# Altium footprint library PcbLib.PcbLib: 285 footprints (part 12 of 18)
Each footprint in its own frame and in the unit in brackets; x right, y up, seen from the top. Pads: shape width x height; smd on the part's side, far side on the other; paste and mask are expansions set on the pad; w line width, h text height; cw(c..) or ccw(c..) is an arc to the next point about the centre after c.
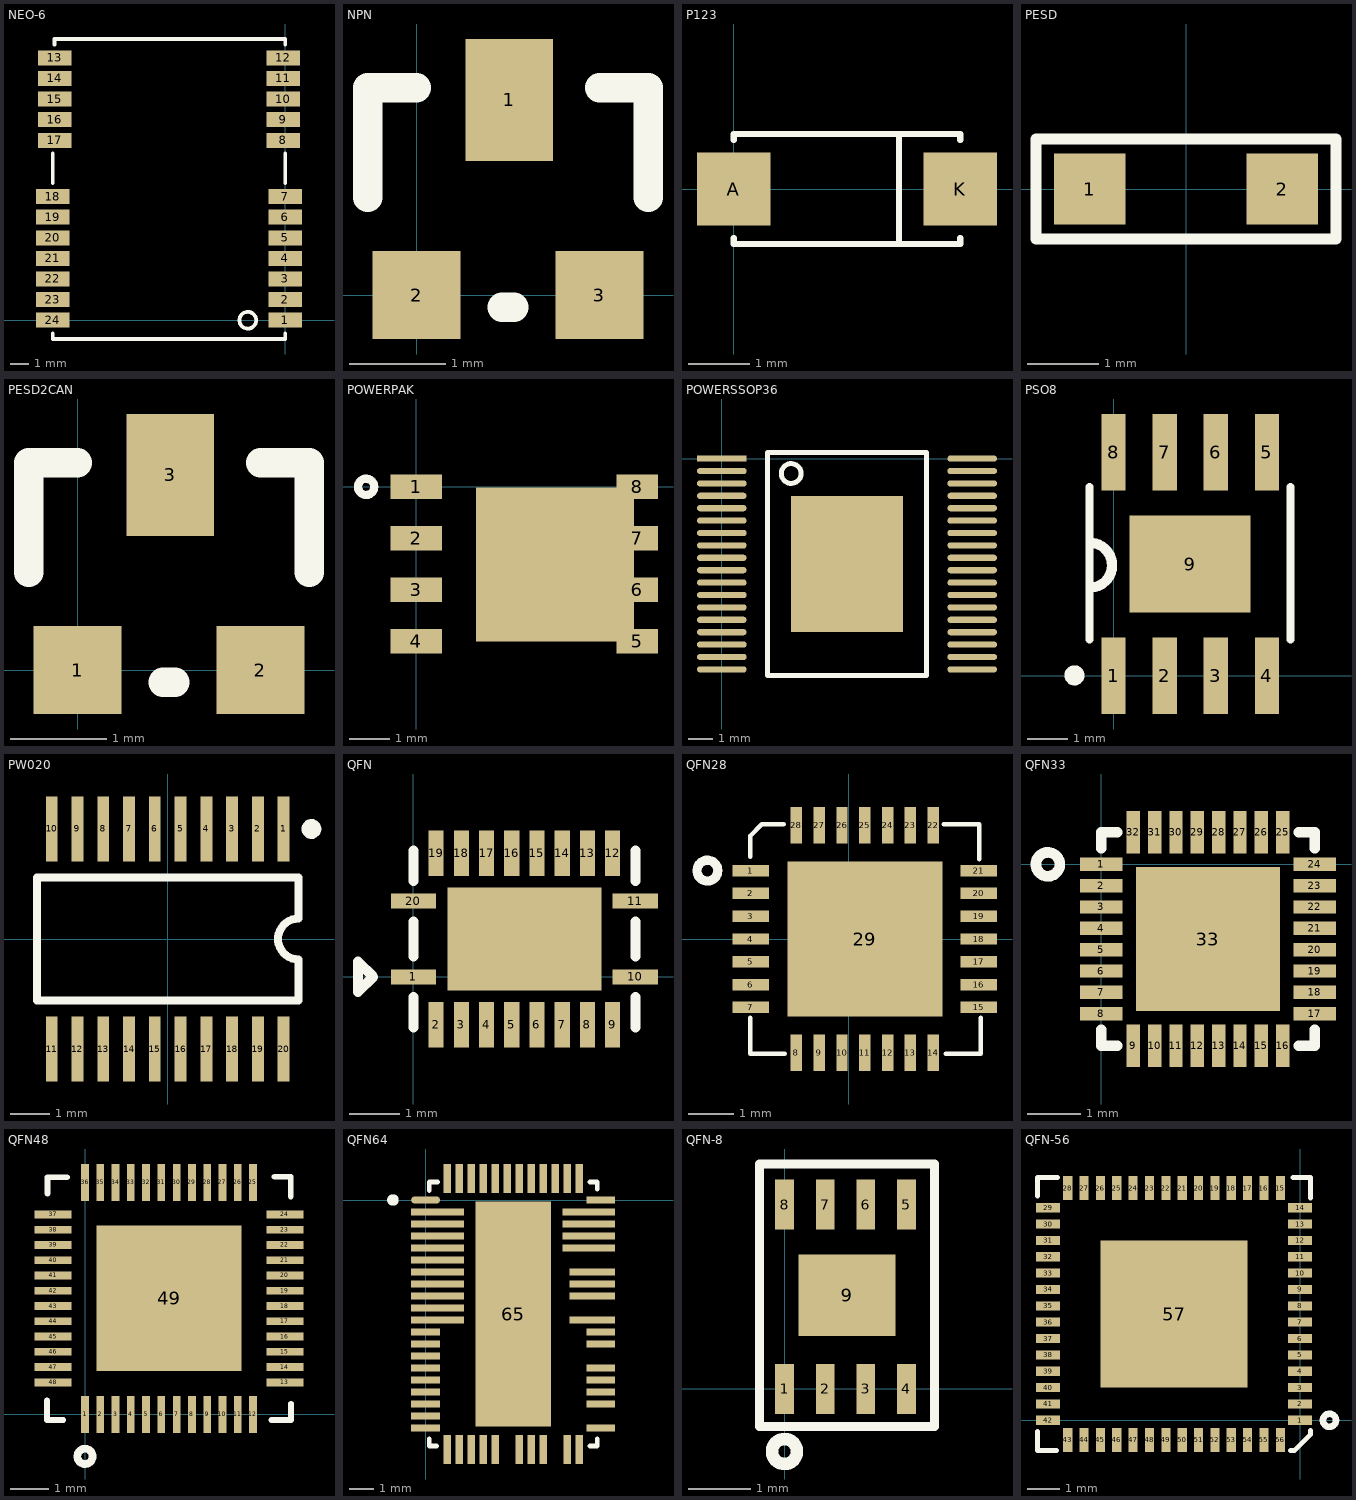
[diagram p11: the footprints below, top view; thin cyan lines are the x and y axes]

## NEO-6 [mm]
pads (24):
  rect 1.8x0.8 smd: 1(0,0) 2(0,1.1) 3(0,2.2) 4(0,3.3) 5(0,4.4) 6(0,5.5) 7(0,6.6) 8(-0.1,9.6) 9(-0.1,10.7) 10(-0.1,11.8) 11(-0.1,12.9) 12(-0.1,14) 13(-12.3,14) 14(-12.3,12.9) 15(-12.3,11.8) 16(-12.3,10.7) 17(-12.3,9.6) 18(-12.4,6.6) 19(-12.4,5.5) 20(-12.4,4.4) 21(-12.4,3.3) 22(-12.4,2.2) 23(-12.4,1.1) 24(-12.4,0)
Top Overlay:
  circle w0.2: c-2,0 r0.447
  lines w0.2: -12.4,-0.7 -12.4,-1 0,-1 0,-0.7 ; -12.4,7.3 -12.4,8.9 ; -12.3,14.7 -12.3,15 0,15 0,14.7 ; 0,7.3 0,8.9

## NPN [mil]
pads (3):
  rect 36x50 smd: 1(38,80)
  rect 36x36 smd: 2(0,0) 3(75,0)
Top Overlay:
  lines w12: -20,40 -20,85 0,85 ; 35,-5 40,-5 ; 75,85 95,85 95,40

## P123 [mm]
pads (2):
  rect 1.2x1.2 smd: A(0,0) K(3.7,0)
Top Overlay:
  lines w0.1: 0,-0.8 0,-0.9 3.7,-0.9 3.7,-0.8 ; 0,0.8 0,0.9 3.7,0.9 3.7,0.8 ; 2.7,-0.9 2.7,0.9

## PESD [mm]
pads (2):
  rect 1x1 smd: 1(-1.35,0) 2(1.35,0)
Top Overlay:
  lines w0.15: -2.1,-0.7 -0.6,-0.7 0,-0.7 2.1,-0.7 2.1,0.7 0,0.7 -0.6,0.7 -2.1,0.7 -2.1,-0.7

## PESD2CAN [mil]
pads (3):
  rect 36x36 smd: 1(0,0) 2(75,0)
  rect 36x50 smd: 3(38,80)
Top Overlay:
  lines w12: -20,40 -20,85 0,85 ; 35,-5 40,-5 ; 75,85 95,85 95,40

## POWERPAK [mm]
pads (9):
  rect 1.27x0.6 smd: 1(0,0) 2(0,-1.27) 3(0,-2.54) 4(0,-3.81)
  rect 1.02x0.6 smd: 5(5.45,-3.81) 6(5.45,-2.54) 7(5.45,-1.27) 8(5.45,0)
  rect 3.9x3.8 smd: ""(3.42,-1.92)
Top Overlay:
  circle w0.2: c-1.241,0 r0.201

## POWERSSOP36 [mm]
pads (37):
  rect 2x0.25 smd: 1(0,0)
  oval 2x0.25 smd: 2(0,-0.5) 3(0,-1) 4(0,-1.5) 5(0,-2) 6(0,-2.5) 7(0,-3) 8(0,-3.5) 9(0,-4) 10(0,-4.5) 11(0,-5) 12(0,-5.5) 13(0,-6) 14(0,-6.5) 15(0,-7) 16(0,-7.5) 17(0,-8) 18(0,-8.5) 19(10.1,-8.5) 20(10.1,-8) 21(10.1,-7.5) 22(10.1,-7) 23(10.1,-6.5) 24(10.1,-6) 25(10.1,-5.5) 26(10.1,-5) 27(10.1,-4.5) 28(10.1,-4) 29(10.1,-3.5) 30(10.1,-3) 31(10.1,-2.5) 32(10.1,-2) 33(10.1,-1.5) 34(10.1,-1) 35(10.1,-0.5) 36(10.1,0)
  rect 4.5x5.5 smd: ""(5.05,-4.25)
Top Overlay:
  circle w0.2: c2.8,-0.6 r0.4
  lines w0.2: 5.175,0.25 8.265,0.25 8.265,-8.75 1.835,-8.75 1.835,0.25 4.925,0.25 5.4,0.25

## PSO8 [mm]
height 1.75
pads (9):
  rect 0.6x1.9 smd: 1(0,0) 2(1.27,0) 3(2.54,0) 4(3.81,0) 5(3.81,5.56) 6(2.54,5.56) 7(1.27,5.56) 8(0,5.56)
  rect 3x2.4 smd: 9(1.9,2.78)
Top Overlay:
  circle w0.25: c-0.975,0.01 r0.125
  lines w0.2: -0.6,0.9 -0.6,4.7 ; 4.4,0.9 4.4,4.7
  lines w0.254: -0.561,2.191 ccw(c-0.6,2.75) -0.542,3.308

## PW020 [mm] "Shrink Small Outline; 20 Leads; Body Width 4.4 mm; Pitch 0.65 mm"
height 1.2
pads (20):
  rect 0.3x1.65 smd: 1(2.925,2.775) 2(2.275,2.775) 3(1.625,2.775) 4(0.975,2.775) 5(0.325,2.775) 6(-0.325,2.775) 7(-0.975,2.775) 8(-1.625,2.775) 9(-2.275,2.775) 10(-2.925,2.775) 11(-2.925,-2.775) 12(-2.275,-2.775) 13(-1.625,-2.775) 14(-0.975,-2.775) 15(-0.325,-2.775) 16(0.325,-2.775) 17(0.975,-2.775) 18(1.625,-2.775) 19(2.275,-2.775) 20(2.925,-2.775)
Top Overlay:
  circle w0.25: c3.625,2.775 r0.125
  lines w0.2: -3.3,-1.55 3.3,-1.55 3.3,-0.517 cw(c3.3,0) 3.3,0.517 3.3,1.55 -3.3,1.55 -3.3,-1.55

## QFN [mm]
pads (21):
  rect 0.9x0.3 smd: 1(0,0) 10(4.4,0) 11(4.4,1.5) 20(0,1.5)
  rect 0.3x0.9 smd: 2(0.45,-0.95) 3(0.95,-0.95) 4(1.45,-0.95) 5(1.95,-0.95) 6(2.45,-0.95) 7(2.95,-0.95) 8(3.45,-0.95) 9(3.95,-0.95) 12(3.95,2.45) 13(3.45,2.45) 14(2.95,2.45) 15(2.45,2.45) 16(1.95,2.45) 17(1.45,2.45) 18(0.95,2.45) 19(0.45,2.45)
  rect 3.05x2.05 smd: ""(2.2,0.75)
Top Overlay:
  lines w0.2: 0,-1 0,-0.4 ; 0,0.4 0,1.1 ; 0,1.9 0,2.5 ; 4.4,-1 4.4,-0.4 ; 4.4,0.4 4.4,1.1 ; 4.4,1.9 4.4,2.5 ; -1.1,-0.3 -0.8,0 -1.1,0.3 -1.1,-0.3

## QFN28 [mil] "GSL_QFN28"
pads (29):
  rrect0% 31.5x9.84 smd: 1(-84.52,59.06) 2(-84.52,39.37) 3(-84.52,19.69) 4(-84.52,0) 5(-84.52,-19.69) 6(-84.52,-39.37) 7(-84.52,-59.06) 15(112.34,-59.06) 16(112.34,-39.37) 17(112.34,-19.69) 18(112.34,0) 19(112.34,19.69) 20(112.34,39.37) 21(112.34,59.06)
  rrect0% 9.84x31.5 smd: 8(-45.15,-98.43) 9(-25.46,-98.43) 10(-5.78,-98.43) 11(13.91,-98.43) 12(33.6,-98.43) 13(53.28,-98.43) 14(72.97,-98.43) 22(72.97,98.43) 23(53.28,98.43) 24(33.6,98.43) 25(13.91,98.43) 26(-5.78,98.43) 27(-25.46,98.43) 28(-45.15,98.43)
  rect 133.86x133.86 smd: 29(13.91,0)
Top Overlay:
  circle w7.87: c-122.05,59.06 r9
  lines w3.94: -85.09,-68 -85.09,-99 -55.09,-99 ; -85.09,71 -85.09,89 -75.09,99 -56.09,99 ; 81.91,99 112.91,99 112.91,69 ; 83.91,-99 113.91,-99 113.91,-68

## QFN33 [mm]
pads (33):
  rect 0.8x0.25 smd: 1(0,0) 2(0,-0.4) 3(0,-0.8) 4(0,-1.2) 5(0,-1.6) 6(0,-2) 7(0,-2.4) 8(0,-2.8) 17(4,-2.8) 18(4,-2.4) 19(4,-2) 20(4,-1.6) 21(4,-1.2) 22(4,-0.8) 23(4,-0.4) 24(4,0)
  rect 0.25x0.8 smd: 9(0.6,-3.4) 10(1,-3.4) 11(1.4,-3.4) 12(1.8,-3.4) 13(2.2,-3.4) 14(2.6,-3.4) 15(3,-3.4) 16(3.4,-3.4) 25(3.4,0.6) 26(3,0.6) 27(2.6,0.6) 28(2.2,0.6) 29(1.8,0.6) 30(1.4,0.6) 31(1,0.6) 32(0.6,0.6)
  rect 2.7x2.7 smd: 33(2,-1.4)
Top Overlay:
  circle w0.2: c-1,0 r0.224
  lines w0.2: 0,-3.1 0,-3.4 0.3,-3.4 ; 0,0.3 0,0.6 0.3,0.6 ; 3.7,-3.4 4,-3.4 4,-3.1 ; 3.7,0.6 4,0.6 4,0.3

## QFN48 [mil]
pads (49):
  rrect0% 8x38 smd: 1(0,0) 2(15.74,0) 3(31.49,0) 4(47.24,0) 5(62.99,0) 6(78.74,0) 7(94.48,0) 8(110.23,0) 9(125.98,0) 10(141.73,0) 11(157.48,0) 12(173.22,0) 25(173.22,239.18) 26(157.48,239.18) 27(141.73,239.18) 28(125.98,239.18) 29(110.23,239.18) 30(94.48,239.18) 31(78.74,239.18) 32(62.99,239.18) 33(47.24,239.18) 34(31.49,239.18) 35(15.74,239.18) 36(0,239.18)
  rrect0% 38x8 smd: 13(206.2,32.98) 14(206.2,48.72) 15(206.2,64.47) 16(206.2,80.22) 17(206.2,95.97) 18(206.2,111.72) 19(206.2,127.46) 20(206.2,143.21) 21(206.2,158.96) 22(206.2,174.71) 23(206.2,190.46) 24(206.2,206.2) 37(-32.98,206.2) 38(-32.98,190.46) 39(-32.98,174.71) 40(-32.98,158.96) 41(-32.98,143.21) 42(-32.98,127.46) 43(-32.98,111.72) 44(-32.98,95.97) 45(-32.98,80.22) 46(-32.98,64.47) 47(-32.98,48.72) 48(-32.98,32.98)
  rect 150x150 smd: 49(86.61,119.59)
Top Overlay:
  circle w7.87: c0,-43.31 r7.87
  lines w6: -39.2,14.24 -39.2,-5.92 -22.39,-5.92 ; -38.67,227.66 -38.67,244.47 -18.51,244.47 ; 192.2,-5.94 212.36,-5.94 212.36,10.87 ; 195.33,244.98 212.14,244.98 212.14,224.83
Top Paste:
  pour cut-out: 91.61,44.63 161.26,44.63 161.26,114.59 91.61,114.59
  pour cut-out: 91.61,124.59 161.37,124.59 161.37,194 91.61,194
  pour cut-out: 11.81,124.59 81.61,124.59 81.61,194.31 11.81,194.31
  pour cut-out: 11.69,44.63 81.61,44.63 81.61,114.59 11.69,114.59

## QFN64 [mm]
pads (59):
  oval 1.2x0.3 smd: 1(0,0)
  rect 2.2x0.3 smd: 2(0.5,-0.5) 3(0.5,-1) 4(0.5,-1.5) 5(0.5,-2) 6(0.5,-2.5) 7(0.5,-3) 8(0.5,-3.5) 9(0.5,-4) 10(0.5,-4.5) 11(0.5,-5) 48(6.8,-2) 49(6.8,-1.5) 50(6.8,-1) 51(6.8,-0.5)
  rect 1.2x0.3 smd: 12(0,-5.5) 13(0,-6) 14(0,-6.5) 15(0,-7) 16(0,-7.5) 17(0,-8) 18(0,-8.5) 19(0,-9) 20(0,-9.5) 33(7.3,-9.5) 35(7.3,-8.5) 36(7.3,-8) 37(7.3,-7.5) 38(7.3,-7) 40(7.3,-6) 41(7.3,-5.5) 52(7.3,0)
  rect 0.3x1.2 smd: 21(0.9,-10.4) 22(1.4,-10.4) 23(1.9,-10.4) 24(2.4,-10.4) 25(2.9,-10.4) 27(3.9,-10.4) 28(4.4,-10.4) 29(4.9,-10.4) 31(5.9,-10.4) 32(6.4,-10.4) 53(6.4,0.9) 54(5.9,0.9) 55(5.4,0.9) 56(4.9,0.9) 57(4.4,0.9) 58(3.9,0.9) 59(3.4,0.9) 60(2.9,0.9) 61(2.4,0.9) 62(1.9,0.9) 63(1.4,0.9) 64(0.9,0.9)
  rect 1.9x0.3 smd: 42(6.95,-5) 44(6.95,-4) 45(6.95,-3.5) 46(6.95,-3)
  rect 3.15x9.38 smd: 65(3.65,-4.75)
Top Overlay:
  circle w0.254: c-1.362,0 r0.112
  lines w0.2: 0.15,-9.95 0.15,-10.25 0.45,-10.25 ; 0.15,0.4 0.15,0.75 0.5,0.75 ; 6.85,-10.25 7.15,-10.25 7.15,-9.95 ; 6.85,0.75 7.15,0.75 7.15,0.45

## QFN-8 [mm]
pads (9):
  rect 0.3x0.8 smd: 1(0,0) 2(0.65,0) 3(1.3,0) 4(1.95,0) 5(1.95,2.95) 6(1.3,2.95) 7(0.65,2.95) 8(0,2.95)
  rect 1.55x1.3 smd: 9(1,1.5)
Top Overlay:
  circle w0.2: c0,-1 r0.2
  lines w0.15: -0.4,-0.6 -0.4,3.6 2.4,3.6 2.4,-0.6 -0.4,-0.6

## QFN-56 [mil]
pads (57):
  rrect0% 29x11 smd: 1(0,0) 2(0,19.68) 3(0,39.37) 4(0,59.05) 5(0,78.74) 6(0,98.42) 7(0,118.11) 8(0,137.79) 9(0,157.48) 10(0,177.16) 11(0,196.85) 12(0,216.53) 13(0,236.22) 14(0,255.9) 29(-303.3,255.9) 30(-303.3,236.22) 31(-303.3,216.53) 32(-303.3,196.85) 33(-303.3,177.16) 34(-303.3,157.48) 35(-303.3,137.79) 36(-303.3,118.11) 37(-303.3,98.42) 38(-303.3,78.74) 39(-303.3,59.05) 40(-303.3,39.37) 41(-303.3,19.68) 42(-303.3,0)
  rrect0% 11x29 smd: 15(-23.7,279.6) 16(-43.38,279.6) 17(-63.07,279.6) 18(-82.75,279.6) 19(-102.44,279.6) 20(-122.12,279.6) 21(-141.81,279.6) 22(-161.49,279.6) 23(-181.18,279.6) 24(-200.86,279.6) 25(-220.55,279.6) 26(-240.23,279.6) 27(-259.92,279.6) 28(-279.6,279.6) 43(-279.6,-23.7) 44(-259.92,-23.7) 45(-240.23,-23.7) 46(-220.55,-23.7) 47(-200.86,-23.7) 48(-181.18,-23.7) 49(-161.49,-23.7) 50(-141.81,-23.7) 51(-122.12,-23.7) 52(-102.44,-23.7) 53(-82.75,-23.7) 54(-63.07,-23.7) 55(-43.38,-23.7) 56(-23.7,-23.7)
  rect 177x177 smd: 57(-151.65,127.95)
Top Overlay:
  circle w7.87: c35.43,0 r7.87
  lines w6: -316.13,-13.43 -316.13,-36.53 -292.84,-36.53 ; -316.13,269.78 -316.13,292.43 -291.8,292.43 ; -11.6,-36.53 -6.85,-36.53 12.83,-16.85 12.83,-12.09 ; -8.38,292.43 12.83,292.43 12.83,267.78
Top Paste:
  pour cut-out: -161.49,204.72 -228.42,204.72 -228.42,137.79 -161.49,137.79
  pour cut-out: -161.49,118.11 -228.42,118.11 -228.42,51.18 -161.49,51.18
  pour cut-out: -74.88,204.72 -141.81,204.72 -141.81,137.79 -74.88,137.79
  pour cut-out: -74.88,118.11 -141.81,118.11 -141.81,51.18 -74.88,51.18